# Altium integrated library sparkfun-samd21-mini-breakout.IntLib: 32 symbols
Pins are listed as number, name and electrical type; pins without a type are passive.

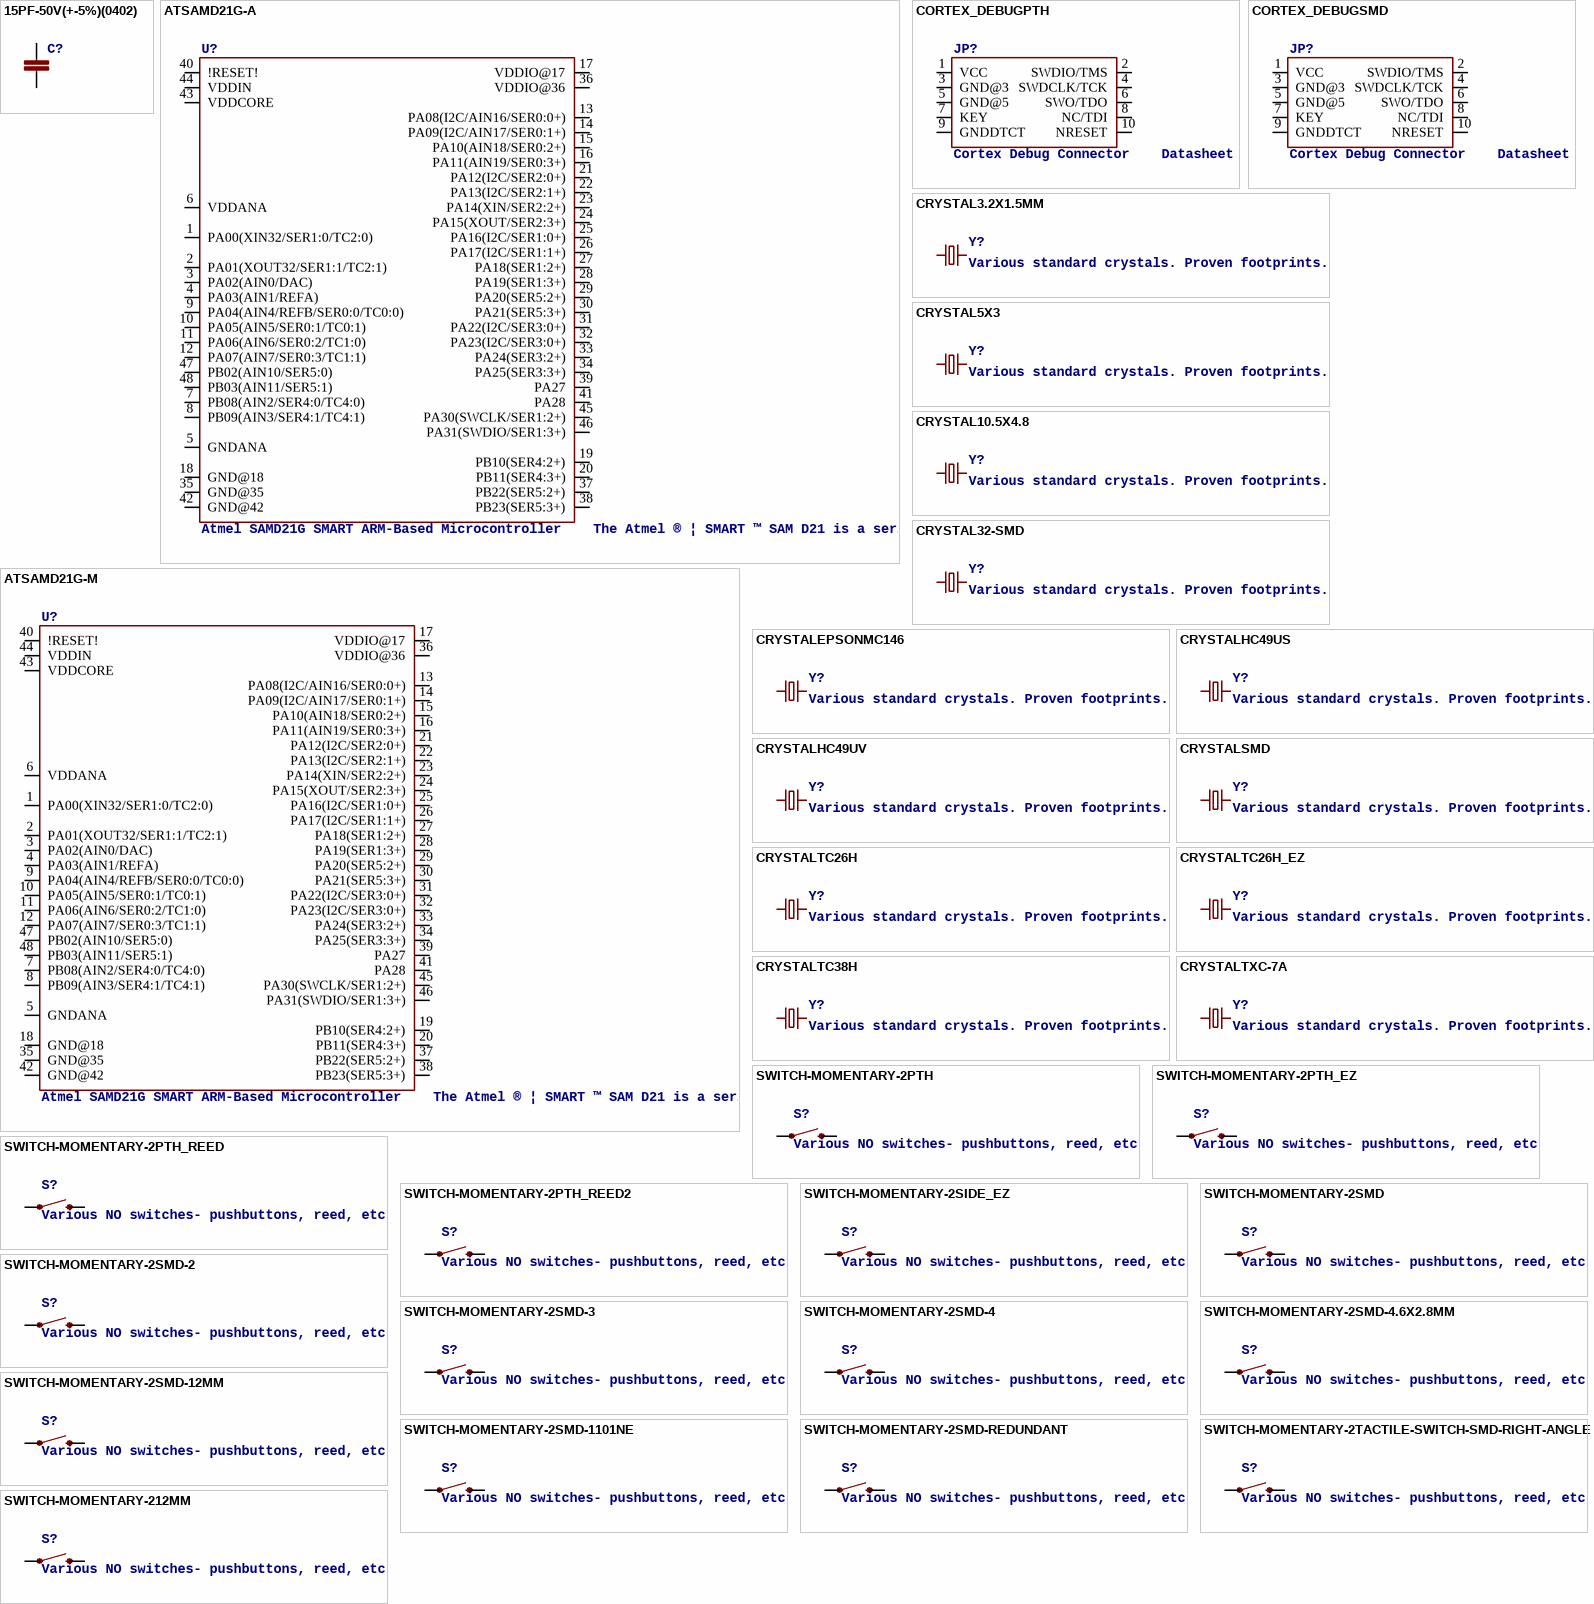
[diagram p0: symbols 15PF-50V(+-5%)(0402) to SWITCH-MOMENTARY-212MM]

## 15PF-50V(+-5%)(0402)
designator C?
PROD_ID: CAP-13063
footprint 0402-CAP
pins: 1, 2

## ATSAMD21G-A
designator U?, comment Atmel SAMD21G SMART ARM-Based Microcontroller    The Atmel ® | SMART ™ SAM D21 is a series of low-power microcontrollers using the 32-bit ARM ® Cortex ® -M0+ processor, and ranging from 32- to 64-pins with up to 256KB Flash and 32KB of SRAM. The SAM D21 devices operate at a maximum frequency of 48MHz and reach 2.46 CoreMark/MHz. They are designed for simple and intuitive migration with identical peripheral modules, hex compatible code, identical linear address map and pin compatible migration paths between all devices in the product series. All devices include intelligent and flexible peripherals, Atmel Event System for inter-peripheral signaling, and support for capacitive touch button, slider and wheel user interfaces.
PROD_ID: IC-13064
footprint TQFP-48
pins: 1 PA00(XIN32/SER1:0/TC2:0), 2 PA01(XOUT32/SER1:1/TC2:1), 3 PA02(AIN0/DAC), 4 PA03(AIN1/REFA), 5 GNDANA, 6 VDDANA, 7 PB08(AIN2/SER4:0/TC4:0), 8 PB09(AIN3/SER4:1/TC4:1), 9 PA04(AIN4/REFB/SER0:0/TC0:0), 10 PA05(AIN5/SER0:1/TC0:1), 11 PA06(AIN6/SER0:2/TC1:0), 12 PA07(AIN7/SER0:3/TC1:1), 13 PA08(I2C/AIN16/SER0:0+), 14 PA09(I2C/AIN17/SER0:1+), 15 PA10(AIN18/SER0:2+), 16 PA11(AIN19/SER0:3+), 17 VDDIO@17, 18 GND@18, 19 PB10(SER4:2+), 20 PB11(SER4:3+), 21 PA12(I2C/SER2:0+), 22 PA13(I2C/SER2:1+), 23 PA14(XIN/SER2:2+), 24 PA15(XOUT/SER2:3+), 25 PA16(I2C/SER1:0+), 26 PA17(I2C/SER1:1+), 27 PA18(SER1:2+), 28 PA19(SER1:3+), 29 PA20(SER5:2+), 30 PA21(SER5:3+), 31 PA22(I2C/SER3:0+), 32 PA23(I2C/SER3:0+), 33 PA24(SER3:2+), 34 PA25(SER3:3+), 35 GND@35, 36 VDDIO@36, 37 PB22(SER5:2+), 38 PB23(SER5:3+), 39 PA27, 40 !RESET!, 41 PA28, 42 GND@42, 43 VDDCORE, 44 VDDIN, 45 PA30(SWCLK/SER1:2+), 46 PA31(SWDIO/SER1:3+), 47 PB02(AIN10/SER5:0), 48 PB03(AIN11/SER5:1)

## ATSAMD21G-M
designator U?, comment Atmel SAMD21G SMART ARM-Based Microcontroller    The Atmel ® | SMART ™ SAM D21 is a series of low-power microcontrollers using the 32-bit ARM ® Cortex ® -M0+ processor, and ranging from 32- to 64-pins with up to 256KB Flash and 32KB of SRAM. The SAM D21 devices operate at a maximum frequency of 48MHz and reach 2.46 CoreMark/MHz. They are designed for simple and intuitive migration with identical peripheral modules, hex compatible code, identical linear address map and pin compatible migration paths between all devices in the product series. All devices include intelligent and flexible peripherals, Atmel Event System for inter-peripheral signaling, and support for capacitive touch button, slider and wheel user interfaces.
footprint QFN-48
pins: 1 PA00(XIN32/SER1:0/TC2:0), 2 PA01(XOUT32/SER1:1/TC2:1), 3 PA02(AIN0/DAC), 4 PA03(AIN1/REFA), 5 GNDANA, 6 VDDANA, 7 PB08(AIN2/SER4:0/TC4:0), 8 PB09(AIN3/SER4:1/TC4:1), 9 PA04(AIN4/REFB/SER0:0/TC0:0), 10 PA05(AIN5/SER0:1/TC0:1), 11 PA06(AIN6/SER0:2/TC1:0), 12 PA07(AIN7/SER0:3/TC1:1), 13 PA08(I2C/AIN16/SER0:0+), 14 PA09(I2C/AIN17/SER0:1+), 15 PA10(AIN18/SER0:2+), 16 PA11(AIN19/SER0:3+), 17 VDDIO@17, 18 GND@18, 19 PB10(SER4:2+), 20 PB11(SER4:3+), 21 PA12(I2C/SER2:0+), 22 PA13(I2C/SER2:1+), 23 PA14(XIN/SER2:2+), 24 PA15(XOUT/SER2:3+), 25 PA16(I2C/SER1:0+), 26 PA17(I2C/SER1:1+), 27 PA18(SER1:2+), 28 PA19(SER1:3+), 29 PA20(SER5:2+), 30 PA21(SER5:3+), 31 PA22(I2C/SER3:0+), 32 PA23(I2C/SER3:0+), 33 PA24(SER3:2+), 34 PA25(SER3:3+), 35 GND@35, 36 VDDIO@36, 37 PB22(SER5:2+), 38 PB23(SER5:3+), 39 PA27, 40 !RESET!, 41 PA28, 42 GND@42, 43 VDDCORE, 44 VDDIN, 45 PA30(SWCLK/SER1:2+), 46 PA31(SWDIO/SER1:3+), 47 PB02(AIN10/SER5:0), 48 PB03(AIN11/SER5:1)

## CORTEX_DEBUGPTH
designator JP?, comment Cortex Debug Connector    Datasheet
footprint 2X5-PTH-1.27MM
pins: 1 VCC, 2 SWDIO/TMS, 3 GND@3, 4 SWDCLK/TCK, 5 GND@5, 6 SWO/TDO, 7 KEY, 8 NC/TDI, 9 GNDDTCT, 10 NRESET

## CORTEX_DEBUGSMD
designator JP?, comment Cortex Debug Connector    Datasheet
footprint SAMTECH_FTSH-105-01
pins: 1 VCC, 2 SWDIO/TMS, 3 GND@3, 4 SWDCLK/TCK, 5 GND@5, 6 SWO/TDO, 7 KEY, 8 NC/TDI, 9 GNDDTCT, 10 NRESET

## CRYSTAL3.2X1.5MM
designator Y?, comment Various standard crystals. Proven footprints.
PROD_ID: XTAL-13062
footprint CRYSTAL-SMD-3.2X1.5MM
pins: P$1 1, P$2 2

## CRYSTAL5X3
designator Y?, comment Various standard crystals. Proven footprints.
PROD_ID: XTAL-08218
footprint CRYSTAL-SMD-5X3
pins: 1, 3 2

## CRYSTAL10.5X4.8
designator Y?, comment Various standard crystals. Proven footprints.
footprint CRYSTAL-SMD-10.5X4.8-2PIN
pins: P$1 1, P$2 2

## CRYSTAL32-SMD
designator Y?, comment Various standard crystals. Proven footprints.
PROD_ID: XTAL-07894
footprint CRYSTAL-32KHZ-SMD
pins: X1 1, X2 2

## CRYSTALEPSONMC146
designator Y?, comment Various standard crystals. Proven footprints.
footprint CRYSTAL-32KHZ-SMD_EPSON_MC146
pins: P$1 2, P$2 1

## CRYSTALHC49US
designator Y?, comment Various standard crystals. Proven footprints.
footprint HC49US
pins: 1, 2

## CRYSTALHC49UV
designator Y?, comment Various standard crystals. Proven footprints.
footprint HC49U-V
pins: 1, 2

## CRYSTALSMD
designator Y?, comment Various standard crystals. Proven footprints.
footprint HC49UP
pins: 1, 2

## CRYSTALTC26H
designator Y?, comment Various standard crystals. Proven footprints.
PROD_ID: XTAL-10112
footprint TC26H
pins: 1, 2

## CRYSTALTC26H_EZ
designator Y?, comment Various standard crystals. Proven footprints.
footprint TC26HEZ
pins: 1, 2

## CRYSTALTC38H
designator Y?, comment Various standard crystals. Proven footprints.
footprint TC38H
pins: 1, 2

## CRYSTALTXC-7A
designator Y?, comment Various standard crystals. Proven footprints.
footprint CRYSTAL-TXC-7A
pins: P$1 1, P$2 2

## SWITCH-MOMENTARY-2PTH
designator S?, comment Various NO switches- pushbuttons, reed, etc
PROD_ID: SWCH-08441
footprint TACTILE-PTH
pins: 1, 3 2

## SWITCH-MOMENTARY-2PTH_EZ
designator S?, comment Various NO switches- pushbuttons, reed, etc
footprint TACTILE-PTH-EZ
pins: 1, 3 2

## SWITCH-MOMENTARY-2PTH_REED
designator S?, comment Various NO switches- pushbuttons, reed, etc
footprint REED_SWITCH_PTH
pins: P$1 1, P$2 2

## SWITCH-MOMENTARY-2PTH_REED2
designator S?, comment Various NO switches- pushbuttons, reed, etc
PROD_ID: SWCH-10467
footprint REED_SWITCH_PLASTIC
pins: P$1 1, P$2 2

## SWITCH-MOMENTARY-2SIDE_EZ
designator S?, comment Various NO switches- pushbuttons, reed, etc
footprint TACTILE-PTH-SIDEEZ
pins: 1, 2

## SWITCH-MOMENTARY-2SMD
designator S?, comment Various NO switches- pushbuttons, reed, etc
PROD_ID: SWCH-08247
footprint TACTILE-SWITCH-SMD
pins: 1, 3 2

## SWITCH-MOMENTARY-2SMD-2
designator S?, comment Various NO switches- pushbuttons, reed, etc
PROD_ID: SWCH-09213
footprint TACTILE_SWITCH_SMD-2
pins: 1 2, 2 1

## SWITCH-MOMENTARY-2SMD-3
designator S?, comment Various NO switches- pushbuttons, reed, etc
footprint TACTILE_SWITCH_SMD-3
pins: 1, 4 2

## SWITCH-MOMENTARY-2SMD-4
designator S?, comment Various NO switches- pushbuttons, reed, etc
PROD_ID: SWCH-11966
footprint TACTILE_SWITCH_TALL
pins: A2 1, B2 2

## SWITCH-MOMENTARY-2SMD-4.6X2.8MM
designator S?, comment Various NO switches- pushbuttons, reed, etc
PROD_ID: SWCH-13065
footprint TACTILE_SWITCH_SMD_4.6X2.8MM
pins: 1 2 1, 3 4 2

## SWITCH-MOMENTARY-2SMD-12MM
designator S?, comment Various NO switches- pushbuttons, reed, etc
footprint TACTILE-SMD-12MM
pins: 1, 3 2

## SWITCH-MOMENTARY-2SMD-1101NE
designator S?, comment Various NO switches- pushbuttons, reed, etc
PROD_ID: SWCH-00815
footprint TACTILE-SWITCH-1101NE
pins: 1, 2

## SWITCH-MOMENTARY-2SMD-REDUNDANT
designator S?, comment Various NO switches- pushbuttons, reed, etc
PROD_ID: SWCH-08247
footprint TACTILE-SWITCH-SMD
pins: 1 2 1, 3 4 2

## SWITCH-MOMENTARY-2TACTILE-SWITCH-SMD-RIGHT-ANGLE
designator S?, comment Various NO switches- pushbuttons, reed, etc
PROD_ID: COMP-12265
footprint TACTILE_SWITCH-SMD-RIGHT-ANGLE
pins: 1, 2

## SWITCH-MOMENTARY-212MM
designator S?, comment Various NO switches- pushbuttons, reed, etc
PROD_ID: SWCH-09185
footprint TACTILE-PTH-12MM
pins: 1, 3 2